# Altium schematic symbol library mitosis.SchLib: 8 symbols
Pins are listed as number, name and electrical type; pins without a type are passive.

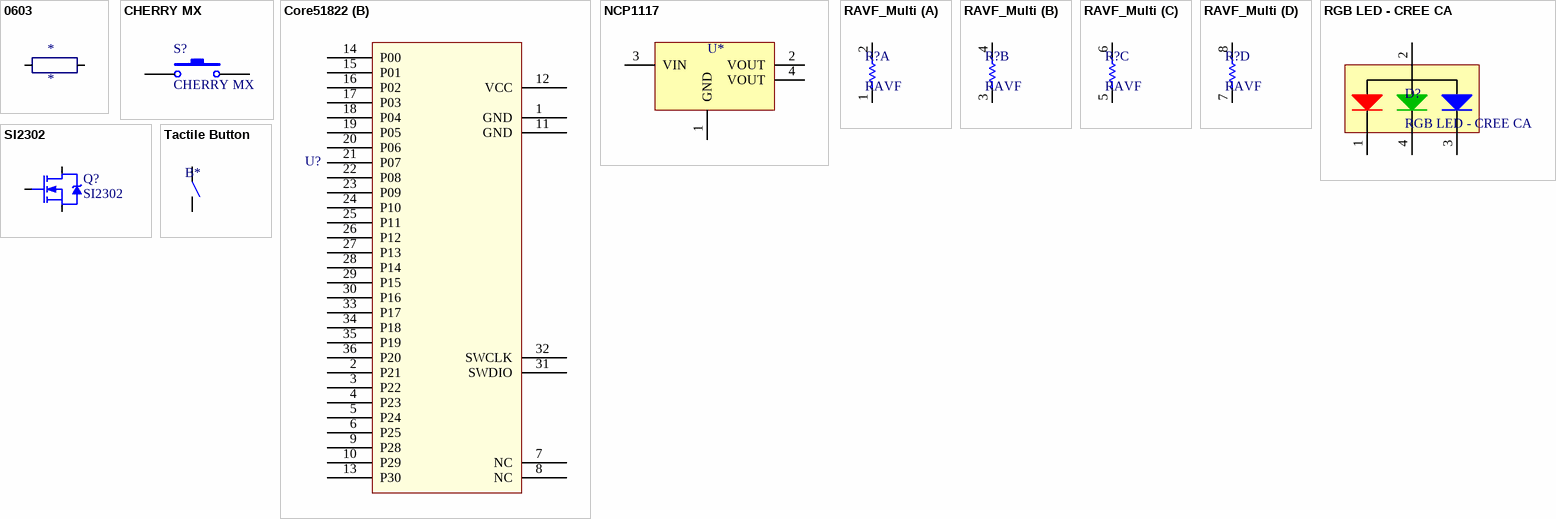
[diagram p0: symbols 0603 to Tactile Button]

## 0603
designator *
footprint RESC2012X06N (Chip Resistor, 2-Leads, Body 2.00x1.25mm, IPC Medium Density)
pins: 1, 2

## CHERRY MX
designator S?
Switch; Published: 24-Mar-1999; LatestRevisionDate: 17-Jul-2002; LatestRevisionNote: Re-released for DXP Platform.; PackageReference: SPST-2; Publisher: Altium Limited; PackageDescription: Switch; 2 Leads
footprint cherry
pins: 1, 2, 3, 4, 5, 6, 7, 8, 9, 10, 11, 12

## Core51822 (B)
designator U?  (value not drawn)
NRF51822 (B)
footprint Core51822 (B)
pins: 1 GND, 2 P21, 3 P22, 4 P23, 5 P24, 6 P25, 7 NC, 8 NC, 9 P28, 10 P29, 11 GND, 12 VCC, 13 P30, 14 P00, 15 P01, 16 P02, 17 P03, 18 P04, 19 P05, 20 P06, 21 P07, 22 P08, 23 P09, 24 P10, 25 P11, 26 P12, 27 P13, 28 P14, 29 P15, 30 P16, 31 SWDIO, 32 SWCLK, 33 P17, 34 P18, 35 P19, 36 P20

## NCP1117
designator U*  (value not drawn)
footprint SOT230P700X180-4N (SOT223, 4-Leads, Body 6.50x7.00mm (avg), Pitch 2.30mm, IPC Medium Density)
pins: 1 GND, 2 VOUT, 3 VIN, 4 VOUT

## RAVF_Multi
designator R?, comment RAVF
RAVF164DJT100R
footprint 1206 quad res
part A pins: 1, 2
part B pins: 3 1, 4 2
part C pins: 5 1, 6 2
part D pins: 7 1, 8 2

## RGB LED - CREE CA
designator D?
Tri Colour CA RGB LEDs - CLV1A-FKB
footprint PLCC4-RGBLED
pins: 1 R, 2 CA, 3 B, 4 G

## SI2302
designator Q?
N-Channel Logic MOSFET; Note: Pin 2 is electrically connected to pin 4.; Published: 8-Jun-2000; LatestRevisionDate: 17-Jul-2002; LatestRevisionNote: Re-released for DXP Platform.; DatasheetVersion: PD-9.814; PackageVersion: Feb-1997; PackageReference: TO-220AB; Publisher: Altium Limited; PackageDescription: TO, Thru-Hole, Vertical, Heatsink Mounted; 3 In-Line Leads; Pitch 2.54 mm; ComponentLink1Description: Manufacturer Link; ComponentLink1URL: http://www.irf.com/
footprint SOT-23 (SOT23, 3-Leads, Body 2.92x3.10mm, Pitch 0.95mm, IPC Medium Density)
pins: 1 G, 2 S, 3 D

## Tactile Button
designator B*  (value not drawn)
footprint TACTILE BUTTON
pins: 1, 2